# EAGLE library part P_MOS_SO8 (library mcp3424)
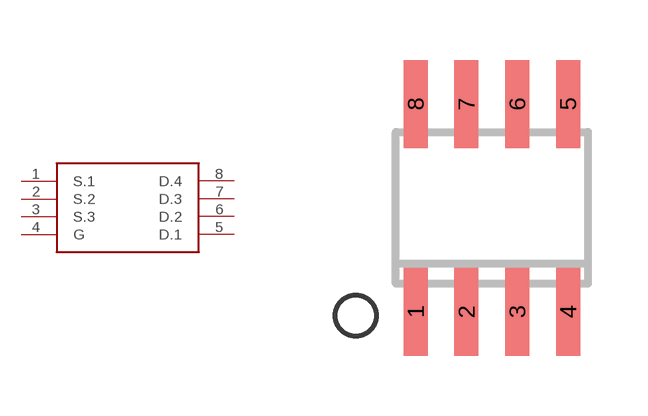
[diagram p3: symbol with the pads of SO8; footprint SO8]

Designator prefix -

## P_MOS_SO8  [SO8]
1  S.1
2  S.2
3  S.3
4  G
5  D.1
6  D.2
7  D.3
8  D.4

## Footprint SO8 (pad centres in mm)
SMALL OUTLINE INTEGRATED CIRCUIT
smd 0.6 x 2.2: 1 -1.905,-2.6; 2 -0.635,-2.6; 3 0.635,-2.6; 4 1.905,-2.6; 5 1.905,2.6; 6 0.635,2.6; 7 -0.635,2.6; 8 -1.905,2.6